# Altium footprint library Diodes.PcbLib: 3 footprints
Each footprint in its own frame and in the unit in brackets; x right, y up, seen from the top. Pads: shape width x height; smd on the part's side, far side on the other; paste and mask are expansions set on the pad; w line width, h text height; cw(c..) or ccw(c..) is an arc to the next point about the centre after c.
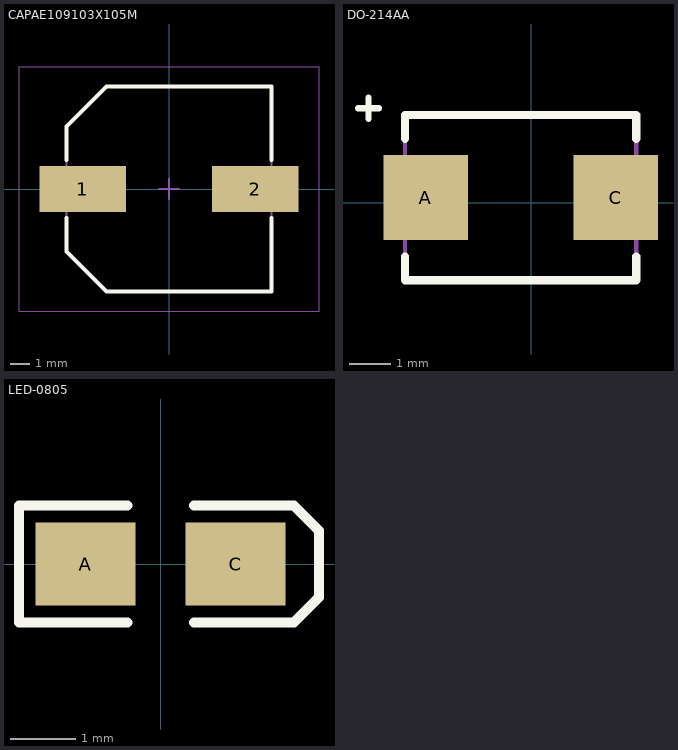
[diagram p0: the footprints below, top view; thin cyan lines are the x and y axes]

## CAPAE109103X105M [mm] "Aluminum Electrolytic Capacitor, Body 10.30x10.30x10.50mm, IPC Low Density"
height 10.5
pads (2):
  rect 4.35x2.3 smd: 1(-4.35,0) 2(4.35,0)
Top Overlay:
  lines w0.2: -5.15,-1.45 -5.15,-3.15 -3.15,-5.15 5.15,-5.15 5.15,-1.45 ; -5.15,1.45 -5.15,3.15 -3.15,5.15 5.15,5.15 5.15,1.45
Mechanical 13:
  lines w0.1: -5.15,-3.15 -3.15,-5.15 5.15,-5.15 5.15,5.15 -3.15,5.15 -5.15,3.15 -5.15,-3.15
Mechanical 15:
  lines w0.05: -7.55,-6.15 -7.55,6.15 7.55,6.15 7.55,-6.15 -7.55,-6.15
  lines w0.1: -0.5,0 0.5,0 ; 0,-0.5 0,0.5
3D body: height 3.5, standoff 0, extent -5.15,-5.15 5.15,5.15
3D body: height 10.5, standoff 0, extent -5,-5 5,4.997

## DO-214AA [mm]
pads (2):
  rrect0% 2.05x2.05 smd: A(-2.554,0.127) C(2.046,0.127)
Top Overlay:
  lines w0.152: -4.191,2.286 -3.683,2.286 ; -3.937,2.032 -3.937,2.54
  lines w0.2: -3.054,-1.298 -3.054,-1.873 2.546,-1.873 2.546,-1.298 ; -3.054,1.552 -3.054,2.127 2.546,2.127 2.546,1.552
Mechanical 15:
  lines w0.1: -3.054,-1.873 -3.054,2.127 2.546,2.127 2.546,-1.873 -3.054,-1.873
  text "1" at -0.418,-0.323 h0.75

## LED-0805 [mil]
pads (2):
  rect 60x50 smd: A(-45,0) C(45,0)
Top Overlay:
  lines w6: -20,-35 -85,-35 -85,35 -20,35 ; 20,-35 80,-35 95,-20 95,20 80,35 20,35